# Altium footprint library IND_TS7708-3.PcbLib: 1 footprints
Each footprint in its own frame and in the unit in brackets; x right, y up, seen from the top. Pads: shape width x height; smd on the part's side, far side on the other; paste and mask are expansions set on the pad; w line width, h text height; cw(c..) or ccw(c..) is an arc to the next point about the centre after c.
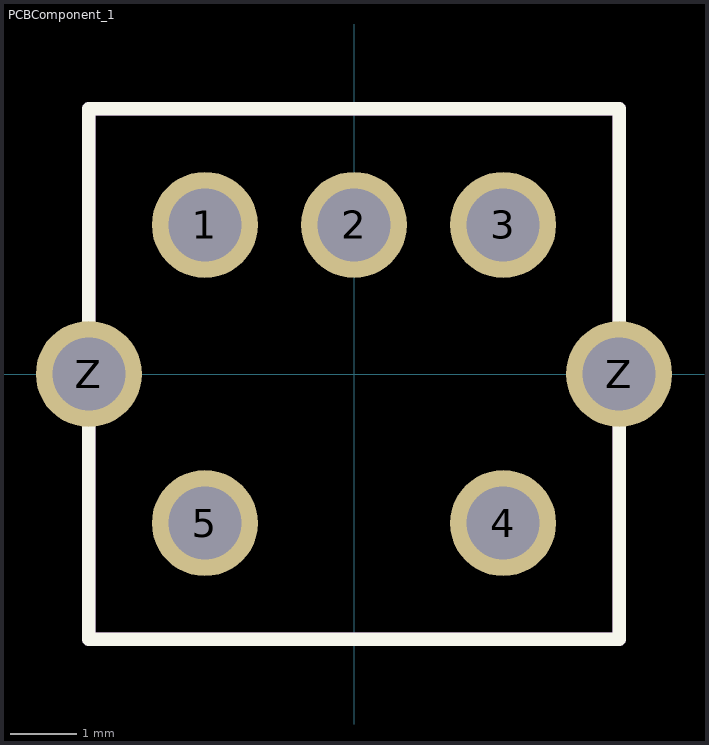
[diagram p0: the footprint, top view; thin cyan lines are the x and y axes]

## PCBComponent_1 [mm]
pads (7):
  round 1.6 hole 1.1: 1(-2.25,2.25) 2(0,2.25) 3(2.25,2.25) 4(2.25,-2.25) 5(-2.25,-2.25) Z(-4,0) Z(4,0)
Top Overlay:
  lines w0.2: -4,-4 4,-4 4,4 -4,4 -4,-4
Mechanical 13:
  lines w0.2: -4,-4 4,-4 4,4 -4,4 -4,-4
3D body: height 10, standoff 0, extent -4,-4 4,4